# Altium schematic symbol library Schlib2.SchLib: 7 symbols
Pins are listed as number, name and electrical type; pins without a type are passive.

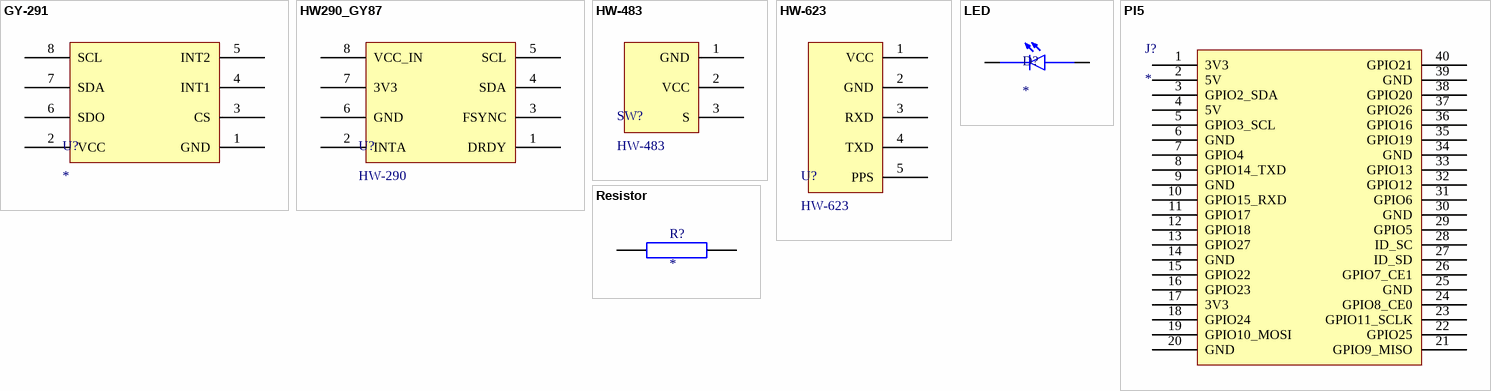
[diagram p0: symbols GY-291 to Resistor]

## GY-291
designator U?
footprint GY-291
pins: 1  GND, 2 VCC, 3 CS, 4 INT1, 5 INT2, 6 SDO, 7 SDA, 8 SCL

## HW290_GY87
designator U?, comment HW-290
footprint HW-290 (HW-290 module, 8 pin, 2.54mm)
pins: 1  DRDY, 2 INTA, 3 FSYNC, 4 SDA, 5 SCL, 6 GND, 7 3V3, 8 VCC_IN

## HW-483
designator SW?
footprint HW-483 (3 pin button. Left pin - GND, central pin - VCC, right pin - SIGNAL)
pins: 1  GND, 2 VCC, 3 S

## HW-623
designator U?
footprint HW-623 (GPS module)
pins: 1  VCC, 2 GND, 3 RXD, 4 TXD, 5 PPS

## LED
designator D?
footprint LED
pins: A, C

## PI5
designator J?
footprint PI5
pins: 1 3V3, 2 5V, 3 GPIO2_SDA, 4 5V, 5 GPIO3_SCL, 6 GND, 7 GPIO4, 8 GPIO14_TXD, 9 GND, 10 GPIO15_RXD, 11 GPIO17, 12 GPIO18, 13 GPIO27, 14 GND, 15 GPIO22, 16 GPIO23, 17 3V3, 18 GPIO24, 19 GPIO10_MOSI, 20 GND, 21 GPIO9_MISO, 22 GPIO25, 23 GPIO11_SCLK, 24 GPIO8_CE0, 25 GND, 26 GPIO7_CE1, 27 ID_SD, 28 ID_SC, 29 GPIO5, 30 GND, 31 GPIO6, 32 GPIO12, 33 GPIO13, 34 GND, 35 GPIO19, 36 GPIO16, 37 GPIO26, 38 GPIO20, 39 GND, 40 GPIO21

## Resistor
designator R?
footprint Resistor
pins: 1, 2